# Altium footprint library SH_1.0_4.PcbLib: 1 footprints
Each footprint in its own frame and in the unit in brackets; x right, y up, seen from the top. Pads: shape width x height; smd on the part's side, far side on the other; paste and mask are expansions set on the pad; w line width, h text height; cw(c..) or ccw(c..) is an arc to the next point about the centre after c.
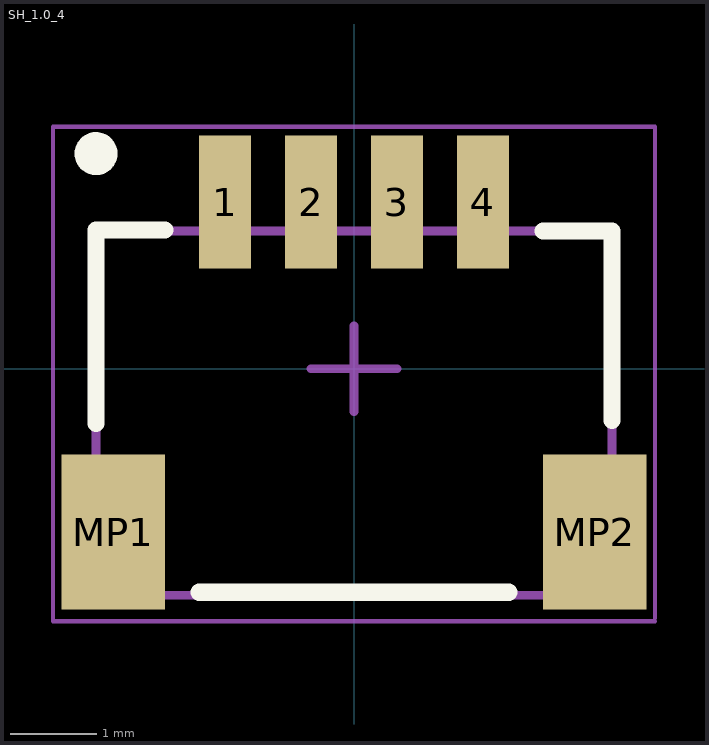
[diagram p0: the footprint, top view; thin cyan lines are the x and y axes]

## SH_1.0_4 [mm]
pads (6):
  rect 0.6x1.55 smd: 1(-1.5,1.938) 2(-0.5,1.938) 3(0.5,1.938) 4(1.5,1.938)
  rect 1.2x1.8 smd: MP1(-2.8,-1.9) MP2(2.8,-1.9)
Top Overlay:
  circle w0.25: c-3,2.5 r0.125
  lines w0.2: -3,-0.637 -3,1.613 -2.2,1.613 ; -1.8,-2.6 1.8,-2.6 ; 2.2,1.6 3,1.6 3,-0.6
Mechanical 13:
  lines w0.1: -3,-2.637 -3,1.6 3,1.6 3,-2.637 -3,-2.637
Mechanical 15:
  lines w0.05: -3.5,2.81 -3.5,-2.937 3.5,-2.937 ; -3.5,2.812 3.5,2.812 ; 3.5,-2.9 3.5,2.8
  lines w0.1: -0.5,0 0.5,0 ; 0,-0.5 0,0.5